# Altium schematic symbol library Mfd3Schlib.SchLib: 30 symbols
Pins are listed as number, name and electrical type; pins without a type are passive.

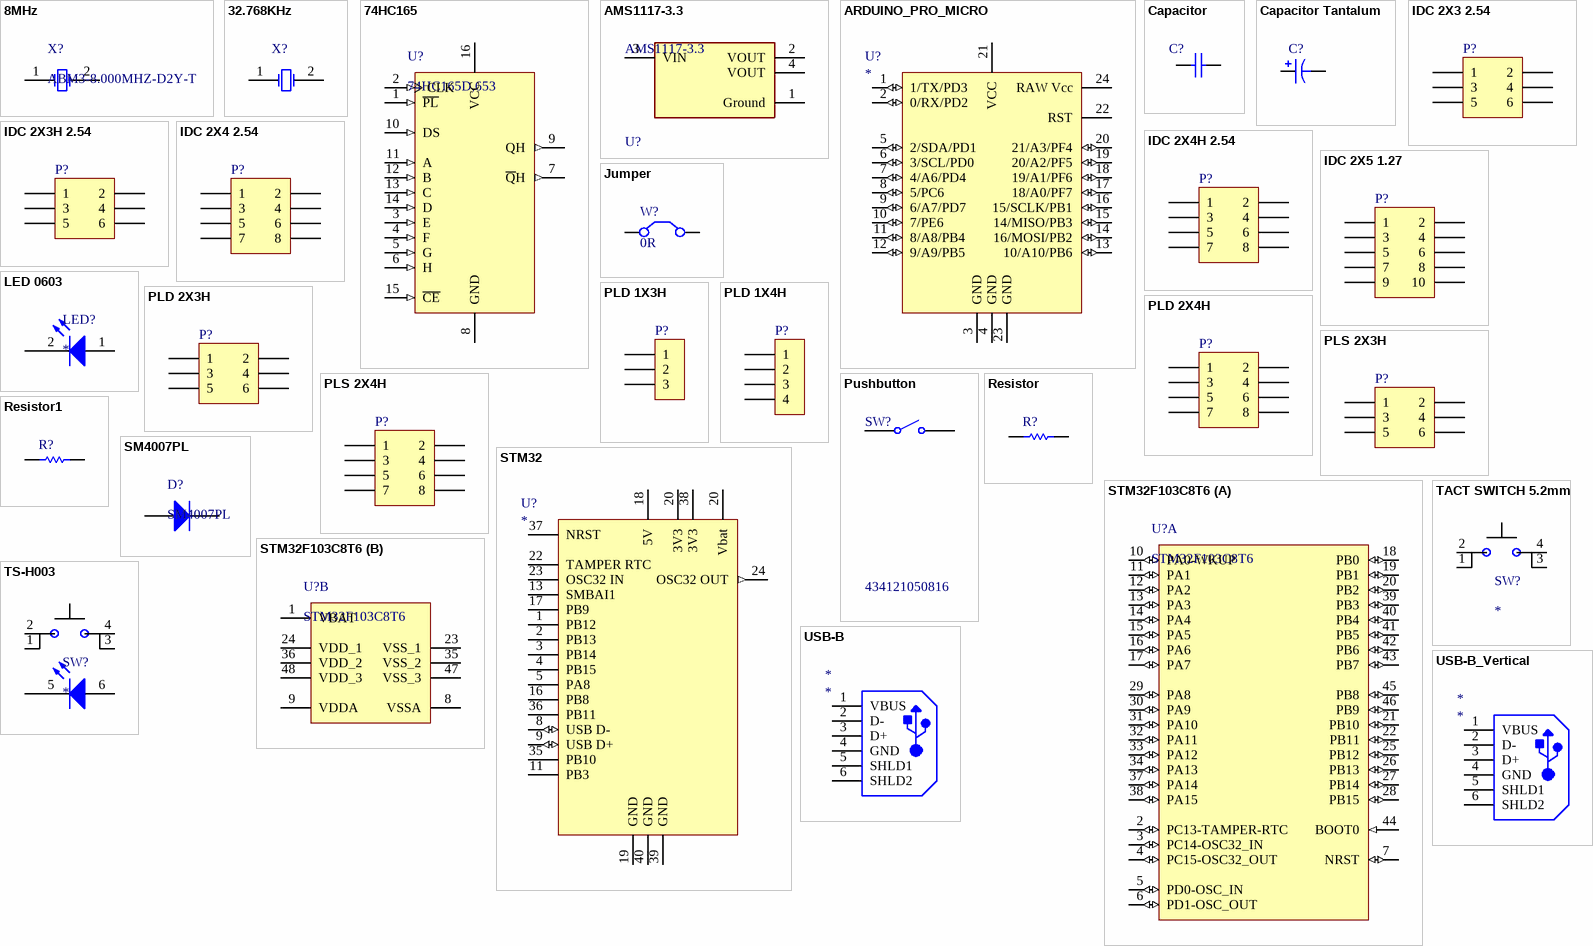
[diagram p0: symbols 8MHz to USB-B_Vertical]

## 8MHz
designator X?, comment ABM3-8.000MHZ-D2Y-T
Miniature Ceramic Crystal, 8 MHz, -40 to 85 degC, 2-Pin SMD, RoHS, Tape and Reel; LCSC Part #: C115962
footprint ABRA-ABM3-2_V (SMD, 2-Leads, Body 5x3.2mm, Pitch 4.1mm)
pins: 1 X1, 2 X2

## 32.768KHz
designator X?
Miniature Ceramic Crystal, 8 MHz, -40 to 85 degC, 2-Pin SMD, RoHS, Tape and Reel; LCSC Part #: C32346
footprint ABRA-ABS07_A_V (SMD, 2-Leads, Body 3.2x1.5mm)
pins: 1 X1, 2 X2

## 74HC165
designator U?, comment 74HC165D,653
8-Bit Parallel-Load Shift Registers, SOIC-16, LARGE T&R; LCSC Part #: C5613
footprint SOIC-16 (SOIC, 16-Leads, Body 10x4mm, Pitch 1.27mm, IPC Low Density)
pins: 1 ~{PL} (in), 2 CLK (in), 3 E (in), 4 F (in), 5 G (in), 6 H (in), 7 ~{Q}H (out), 8 GND (power), 9 QH (out), 10 DS (in), 11 A (in), 12 B (in), 13 C (in), 14 D (in), 15 ~{CE} (in), 16 VCC (power)

## AMS1117-3.3
designator U?
LDO Voltage Regulators 1A, 3.3V; ComponentLink2Description: Datasheet; ComponentLink2URL: http://www.advanced-monolithic.com/pdf/ds1117.pdf; LCSC Part #: C6186
footprint FP-AMS1117-IPC_A
pins: 1 Ground (power), 2 VOUT, 3 VIN (power), 4 VOUT

## ARDUINO_PRO_MICRO
designator U?
footprint Arduino_Pro_Micro
footprint Arduino_Pro_Micro_Upside
pins: 1 1/TX/PD3 (io), 2 0/RX/PD2 (io), 3 GND, 4 GND, 5 2/SDA/PD1 (io), 6 3/SCL/PD0 (io), 7 4/A6/PD4 (io), 8 5/PC6 (io), 9 6/A7/PD7 (io), 10 7/PE6 (io), 11 8/A8/PB4 (io), 12 9/A9/PB5 (io), 13 10/A10/PB6 (io), 14 16/MOSI/PB2 (io), 15 14/MISO/PB3 (io), 16 15/SCLK/PB1 (io), 17 18/A0/PF7 (io), 18 19/A1/PF6 (io), 19 20/A2/PF5 (io), 20 21/A3/PF4 (io), 21 VCC (power), 22 RST, 23 GND, 24 RAW Vcc

## Capacitor
designator C?
Chip Capacitor, 1206; LCSC Part #: *
footprint 1206-CAP (Chip Capacitor, 2-Leads, Body 3.4x1.8mm, IPC High Density)
footprint 0805 CAP
pins: 1, 2

## Capacitor Tantalum
designator C?
Tantalum Capacitor, 1210; LCSC Part #: C16133
footprint 1210 Cap
pins: 1, 2
1 alternate drawing of the same symbol

## IDC 2X3 2.54
designator P?
IDC socket, 3-Pin, Dual row, 2.54 mm
footprint IDC 2X3 2.54 (Connector; Header; 3x2 Position)
signal-integrity model Connector
pins: 1, 2, 3, 4, 5, 6

## IDC 2X3H 2.54
designator P?
IDC socket, 3-Pin, Dual row, Right Angle, 2.54 mm
footprint IDC 2X3H 2.54 (Connector; Header; 3x2 Position; Right Angle)
signal-integrity model Connector
pins: 1, 2, 3, 4, 5, 6

## IDC 2X4 2.54
designator P?
IDC socket, 4-Pin, Dual row, 2.54 mm
footprint IDC 2X4 2.54 (Connector; Header; 4x2 Position)
signal-integrity model Connector
pins: 1, 2, 3, 4, 5, 6, 7, 8

## IDC 2X4H 2.54
designator P?
IDC socket, 4-Pin, Dual row, Right Angle, 2.54 mm
footprint IDC 2X4H 2.54 (Connector; Header; 4x2 Position; Right Angle)
signal-integrity model Connector
pins: 1, 2, 3, 4, 5, 6, 7, 8

## IDC 2X5 1.27
designator P?
IDC socket, 5-Pin, Dual row, 1.27 mm
footprint IDC 2X5 1.27 (Connector; Header; 5x2 Position)
signal-integrity model Connector
pins: 1, 2, 3, 4, 5, 6, 7, 8, 9, 10

## Jumper
designator W?, comment 0R
Jumper 1206; LCSC Part #: C17888
footprint JUMPER-1206
pins: 1 C1, 2 C2

## LED 0603
designator LED?
LED 0603; LCSC Part #: C72043
footprint LED 0603
pins: 1 A, 2 K

## PLD 1X3H
designator P?
Header, 3-Pin, SIngle row, Right Angle
footprint PLD 1X3H (Connector; Header; 3x1 Position; Right Angle)
pins: 1, 2, 3

## PLD 1X4H
designator P?
Header, 4-Pin, SIngle row, Right Angle
footprint PLD 1X4H (Connector; Header; 4x2 Position; Right Angle)
signal-integrity model Connector
pins: 1, 2, 3, 4

## PLD 2X3H
designator P?
Header, 3-Pin, Dual row, Right Angle
footprint PLD 2X3H (Connector; Header; 3x2 Position; Right Angle)
signal-integrity model Connector
pins: 1, 2, 3, 4, 5, 6

## PLD 2X4H
designator P?
Header, 4-Pin, Dual row, Right Angle
footprint PLD 2X4H (Connector; Header; 4x2 Position; Right Angle)
signal-integrity model Connector
pins: 1, 2, 3, 4, 5, 6, 7, 8

## PLS 2X3H
designator P?
Socket, 3-Pin, Dual row, Right Angle
footprint PLS 2X3H (Connector; Header; 3x2 Position; Right Angle)
signal-integrity model Connector
pins: 1, 2, 3, 4, 5, 6

## PLS 2X4H
designator P?
Socket, 4-Pin, Dual row, Right Angle
footprint PLS 2X4H (Connector; Header; 3x2 Position; Right Angle)
signal-integrity model Connector
pins: 1, 2, 3, 4, 5, 6, 7, 8

## Pushbutton
designator SW?, comment 434121050816
WS-TASV SMD Tact Switch 6.0X3.5 mm; Manufacturer: Wuerth Elektronik; NoPins: 02; ComponentLink1Description: Manufacturer URL; PackageReference: 434121050816; PartNumber: 434121050816; ComponentLink2URL: http://katalog.we-online.de/em/datasheet/434121050816.pdf; ComponentLink1URL: http://www.we-online.com; ComponentLink2Description: Datasheet
footprint PushButton (6.0*3.5mm vertical type, SMD, height 5.0mm, black actuator, 160gf, T&R)
pins: 1, 2

## Resistor
designator R?
Resistor 1206; LCSC Part #: *
footprint 1206
pins: 1, 2

## Resistor1
designator R?
Resistor 0805; LCSC Part #: *
footprint 0805 RES
pins: 1, 2

## SM4007PL
designator D?
General diode; LCSC Part #: C64898
footprint SOD-123FL (SODFL, 2-Leads, Body 3.1x1.9mm)
pins: 1 A, 2 K

## STM32
designator U?
footprint STM32
pins: 1 PB12, 2 PB13, 3 PB14, 4 PB15, 5 PA8, 8 USB D- (io), 9 USB D+ (io), 11 PB3, 13 SMBAI1, 16 PB8, 17 PB9, 18 5V (power), 19 GND (power), 20 Vbat, 20 3V3 (power), 22 TAMPER RTC, 23 OSC32 IN, 24 OSC32 OUT (out), 35 PB10, 36 PB11, 37 NRST, 38 3V3 (power), 39 GND (power), 40 GND (power)

## STM32F103C8T6
designator U?
ARM Cortex-M3 32-bit MCU, 64 KB Flash, 20 KB Internal RAM, 37 I/Os, 48-pin LQFP, -40 to 85 degC, Tray; LCSC Part #: C8734
footprint STM-LQFP48_N (QFP, 48-Leads, Body 7x7mm, Pitch 0.5mm, IPC Medium Density)
part A pins: 2 PC13-TAMPER-RTC (io) "PC13-TAMPER-RTC/PC13/TAMPER-RTC", 3 PC14-OSC32_IN (io) "PC14-OSC32_IN/PC14/OSC32_IN", 4 PC15-OSC32_OUT (io) "PC15-OSC32_OUT/PC15/OSC32_OUT", 5 PD0-OSC_IN (io) "PD0/OSC_IN", 6 PD1-OSC_OUT (io) "PD1/OSC_OUT", 7 NRST (io), 10 PA0-WKUP (io) "PA0-WKUP/PA0/WKUP/USART2_CTS/ADC12_IN0/TIM2_CH1_ETR", 11 PA1 (io) "PA1/USART2_RTS/ADC12_IN1/TIM2_CH2", 12 PA2 (io) "PA2/USART2_TX/ADC12_IN2/TIM2_CH3", 13 PA3 (io) "PA3/USART2_RX/ADC12_IN3/TIM2_CH4", 14 PA4 (io) "PA4/SPI1_NSS/USART2_CK/ADC12_IN4", 15 PA5 (io) "PA5/SPI1_SCK/ADC12_IN5", 16 PA6 (io) "PA6/SPI1_MISO/ADC12_IN6/TIM3_CH1/TIM1_BKIN", 17 PA7 (io) "PA7/SPI1_MOSI/ADC12_IN7/TIM3_CH2/TIM1_CH1N", 18 PB0 (io) "PB0/ADC12_IN8/TIM3_CH3/TIM1_CH2N", 19 PB1 (io) "PB1/ADC12_IN9/TIM3_CH4/TIM1_CH3N", 20 PB2 (io) "PB2/BOOT1", 21 PB10 (io) "PB10/I2C2_SCL/USART3_TX/TIM2_CH3", 22 PB11 (io) "PB11/I2C2_SDA/USART3_RX/TIM2_CH4", 25 PB12 (io) "PB12/SPI2_NSS/I2C2_SMBAl/USART3_CK/TIM1_BKIN", 26 PB13 (io) "PB13/SPI2_SCK/USART3_CTS/TIM1_CH1N", 27 PB14 (io) "PB14/SPI2_MISO/USART3_RTS/TIM1_CH2N", 28 PB15 (io) "PB15/SPI2_MOSI/TIM1_CH3N", 29 PA8 (io) "PA8/USART1_CK/TIM1_CH1/MCO", 30 PA9 (io) "PA9/USART1_TX/TIM1_CH2", 31 PA10 (io) "PA10/USART1_RX/TIM1_CH3", 32 PA11 (io) "PA11/USART1_CTS/CANRX/USBDM/TIM1_CH4", 33 PA12 (io) "PA12/USART1_RTS/CANTX/USBDP/TIM1_ETR", 34 PA13 (io) "PA13/JTMS/SWDIO", 37 PA14 (io) "PA14/JTCK/SWCLK", 38 PA15 (io) "PA15/JTDI/TIM2_CH1_ETR/SPI1_NSS", 39 PB3 (io) "PB3/JTDO/TIM2_CH2/TRACESWO/SPI1_SCK", 40 PB4 (io) "PB4/NJTRST/TIM3_CH1/SPI1_MISO", 41 PB5 (io) "PB5/I2C1_SMBAI/TIM3_CH2/SPI1_MOSI", 42 PB6 (io) "PB6/I2C1_SCL/TIM4_CH1/USART1_TX", 43 PB7 (io) "PB7/I2C1_SDA/TIM4_CH2/USART1_RX", 44 BOOT0 (in), 45 PB8 (io) "PB8/TIM4_CH3/I2C1_SCL/CANRX", 46 PB9 (io) "PB9/TIM4_CH4/I2C1_SDA/CANTX"
part B pins: 1 VBAT (power), 8 VSSA (power), 9 VDDA (power), 23 VSS_1 (power), 24 VDD_1 (power), 35 VSS_2 (power), 36 VDD_2 (power), 47 VSS_3 (power), 48 VDD_3 (power)

## TACT SWITCH 5.2mm
designator SW?
Push button 5.2 mm; LCSC Part #: C412369
footprint TACT SWITCH 5.2mm
pins: 1, 2, 3 34, 4

## TS-H003
designator SW?
AKEYS TS-H003
footprint TS-H003
pins: 1, 2, 3 34, 4, 5 K, 6 A

## USB-B
designator *
footprint USB-B (USB 2.0 Type B Horizontal)
pins: 1 VBUS, 2 D-, 3 D+, 4 GND, 5 SHLD1, 6 SHLD2

## USB-B_Vertical
designator *
footprint USB-B_Vertical (THD, 4-Leads, Body 12.03x11.46mm, Pitch 2.5mm)
pins: 1 VBUS, 2 D-, 3 D+, 4 GND, 5 SHLD1, 6 SHLD2